# Altium footprint library rlc-chip.PcbLib: 57 footprints (part 1 of 4)
Each footprint in its own frame and in the unit in brackets; x right, y up, seen from the top. Pads: shape width x height; smd on the part's side, far side on the other; paste and mask are expansions set on the pad; w line width, h text height; cw(c..) or ccw(c..) is an arc to the next point about the centre after c.
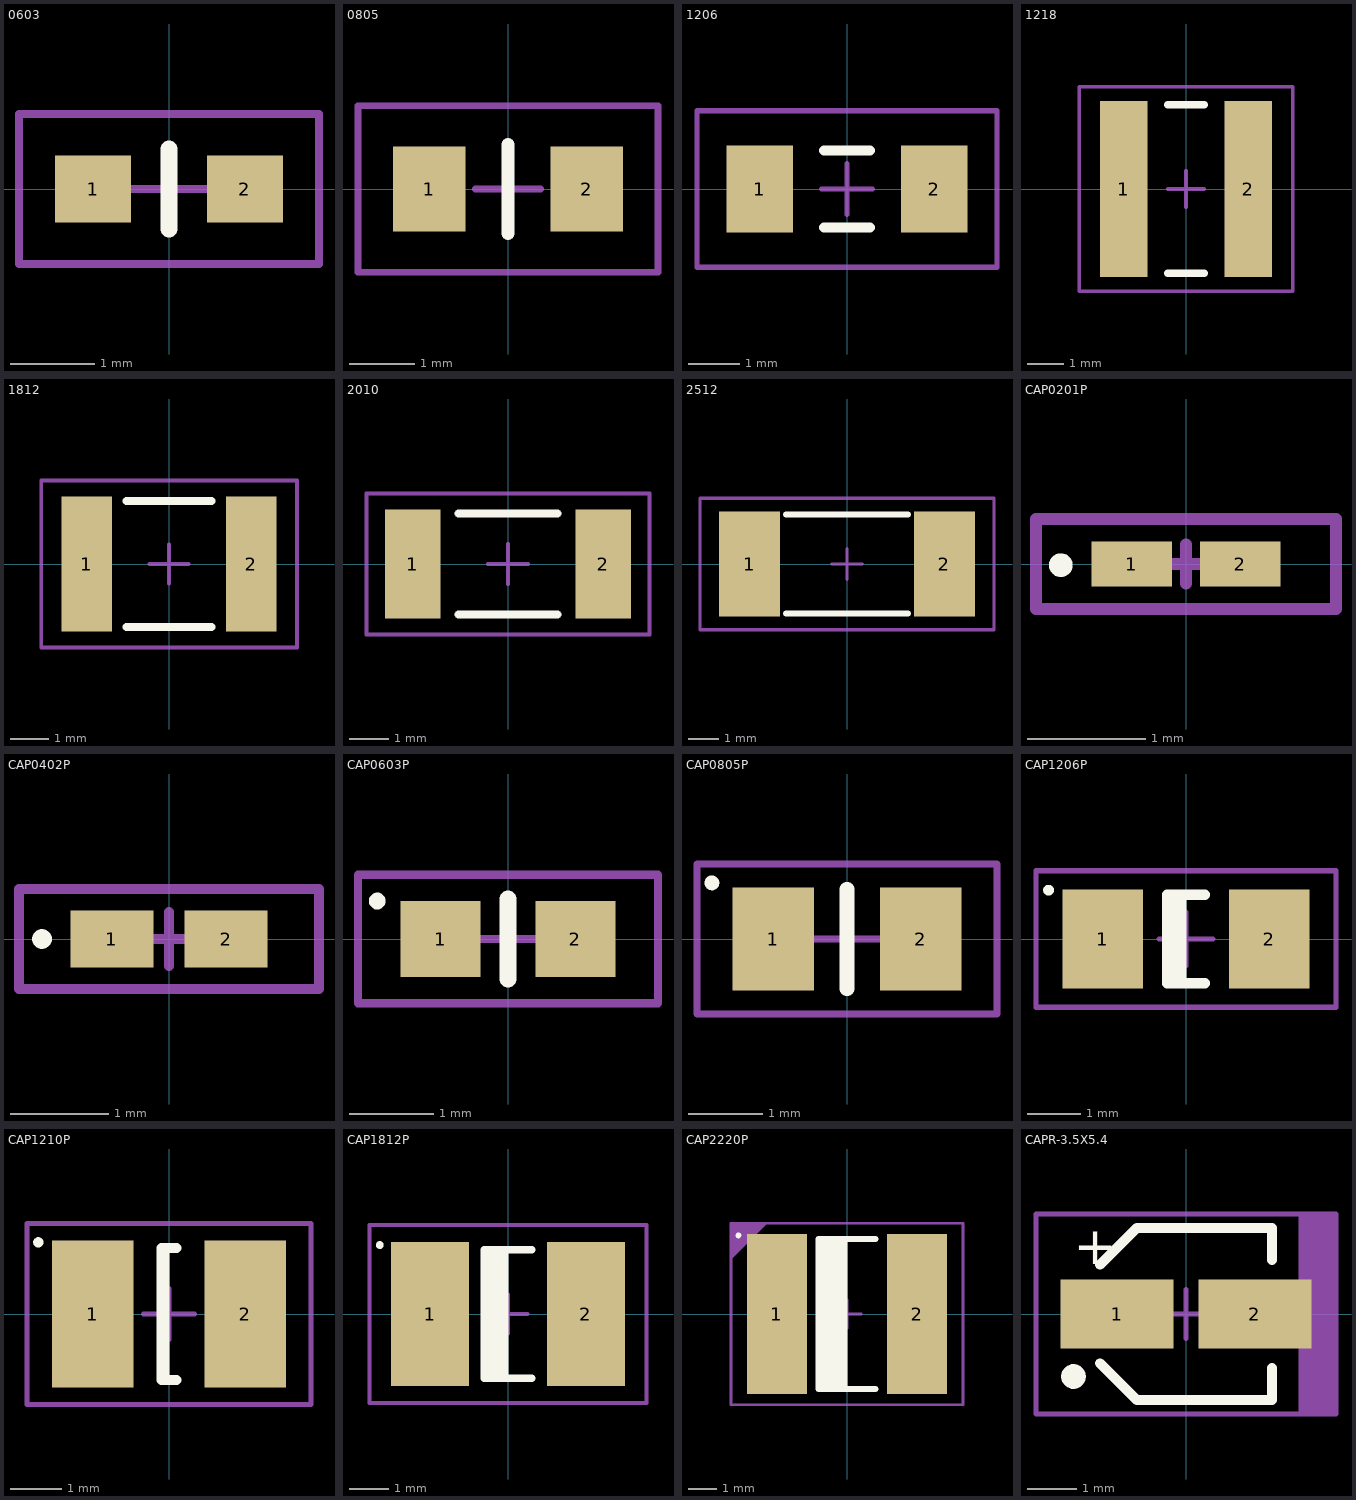
[diagram p0: the footprints below, top view; thin cyan lines are the x and y axes]

## 0603 [mm] "Chip Capacitor, 2-Leads, Body 1,60x0,80mm, IPC Medium Density"
height 0.9
pads (2):
  rect 0.9x0.8 smd: 1(-0.9,0) 2(0.9,0)
Top Overlay:
  lines w0.2: 0,-0.475 0,0.475
Mechanical 13:
  lines w0.1: -1.778,-0.889 -1.778,0.889 1.778,0.889 1.778,-0.889 -1.778,-0.889
  text ".Designator" at -1.34,-0.39 h0.8
Mechanical 15:
  lines w0.05: -1.778,-0.889 -1.778,0.889 1.778,0.889 1.778,-0.889 -1.778,-0.889
  lines w0.1: -0.45,0 0.45,0 ; 0,-0.45 0,0.45
3D body: height 0.9, standoff 0, extent -0.55,-0.45 0.55,0.45
3D body: height 0.9, standoff 0, extent -0.85,-0.45 -0.55,0.45
3D body: height 0.9, standoff 0, extent 0.55,-0.45 0.85,0.45

## 0805 [mm] "Chip Resistor, 2-Leads, Body 2,00x1,25mm, IPC Medium Density"
height 0.7
pads (2):
  rect 1.1x1.3 smd: 1(-1.2,0) 2(1.2,0)
Top Overlay:
  lines w0.2: 0,-0.675 0,0.675
Mechanical 13:
  lines w0.1: -2.286,-1.27 -2.286,1.27 2.286,1.27 2.286,-1.27 -2.286,-1.27
  text ".Designator" at -1.68,-0.49 h1
Mechanical 15:
  lines w0.05: -2.286,-1.27 -2.286,1.27 2.286,1.27 2.286,-1.27 -2.286,-1.27
  lines w0.1: -0.5,0 0.5,0 ; 0,-0.5 0,0.5
3D body: height 0.7, standoff 0, extent -0.7,-0.675 0.7,0.675
3D body: height 0.7, standoff 0, extent -1.1,-0.675 -0.7,0.675
3D body: height 0.7, standoff 0, extent 0.7,-0.675 1.1,0.675

## 1206 [mm] "Chip Resistor, 2-Leads, Body 3,13x1,55mm, IPC Medium Density"
height 0.7
pads (2):
  rect 1.3x1.7 smd: 1(-1.7,0) 2(1.7,0)
Top Overlay:
  lines w0.2: -0.45,-0.75 0.45,-0.75 ; -0.45,0.75 0.45,0.75
Mechanical 13:
  lines w0.1: -2.921,-1.524 -2.921,1.524 2.921,1.524 2.921,-1.524 -2.921,-1.524
  text ".Designator" at -2.16,-0.63 h1.3
Mechanical 15:
  lines w0.05: -2.921,-1.524 -2.921,1.524 2.921,1.524 2.921,-1.524 -2.921,-1.524
  lines w0.1: -0.5,0 0.5,0 ; 0,-0.5 0,0.5
3D body: height 0.7, standoff 0, extent -1.125,-0.825 1.125,0.825
3D body: height 0.7, standoff 0, extent -1.625,-0.825 -1.125,0.825
3D body: height 0.7, standoff 0, extent 1.125,-0.825 1.625,0.825

## 1218 [mm] "Chip Resistor, 2-Leads, Body 3,13x1,55mm, IPC Medium Density"
height 0.7
pads (2):
  rect 1.3x4.8 smd: 1(-1.7,0) 2(1.7,0)
Top Overlay:
  lines w0.2: -0.5,-2.3 0.5,-2.3 ; -0.5,2.3 0.5,2.3
Mechanical 13:
  lines w0.1: -2.921,-2.794 2.921,-2.794 2.921,2.794 -2.921,2.794 -2.921,-2.794
  text ".Designator" at -2.17,-0.65 h1.3
Mechanical 15:
  lines w0.05: -2.921,-2.794 2.921,-2.794 2.921,2.794 -2.921,2.794 -2.921,-2.794
  lines w0.1: -0.5,0 0.5,0 ; 0,-0.5 0,0.5
3D body: height 0.7, standoff 0, extent 1.125,-2.3 1.625,2.3
3D body: height 0.7, standoff 0, extent -1.625,-2.3 -1.125,2.3
3D body: height 0.7, standoff 0, extent -1.125,-2.3 1.125,2.3

## 1812 [mm] "Chip Resistor, 2-Leads, Body 4,50x3,20mm, IPC Medium Density"
height 0.7
pads (2):
  rect 1.3x3.5 smd: 1(-2.125,0) 2(2.125,0)
Top Overlay:
  lines w0.2: -1.1,-1.625 1.1,-1.625 ; -1.1,1.625 1.1,1.625
Mechanical 13:
  lines w0.1: -3.3,-2.159 3.302,-2.159 3.302,2.159 -3.3,2.159 -3.3,-2.159
  text ".Designator" at -2.18,-0.57 h1.3
Mechanical 15:
  lines w0.05: -3.3,-2.159 3.3,-2.159 3.3,2.159 -3.3,2.159 -3.3,-2.159
  lines w0.1: -0.5,0 0.5,0 ; 0,-0.5 0,0.5
3D body: height 0.7, standoff 0, extent 1.85,-1.7 2.35,1.7
3D body: height 0.7, standoff 0, extent -2.35,-1.7 -1.85,1.7
3D body: height 0.7, standoff 0, extent -1.85,-1.7 1.85,1.7

## 2010 [mm] "Chip Resistor, 2-Leads, Body 5,00x2,50mm, IPC Medium Density"
height 0.7
pads (2):
  rect 1.4x2.75 smd: 1(-2.4,0) 2(2.4,0)
Top Overlay:
  lines w0.2: -1.25,-1.275 1.25,-1.275 ; -1.25,1.275 1.25,1.275
Mechanical 13:
  lines w0.1: -3.556,-1.778 3.556,-1.778 3.556,1.778 -3.556,1.778 -3.556,-1.778
  text ".Designator" at -2.33,-0.7 h1.4
Mechanical 15:
  lines w0.05: -3.556,-1.778 3.556,-1.778 3.556,1.778 -3.556,1.778 -3.556,-1.778
  lines w0.1: -0.5,0 0.5,0 ; 0,-0.5 0,0.5
3D body: height 0.7, standoff 0, extent 2,-1.35 2.6,1.35
3D body: height 0.7, standoff 0, extent -2.6,-1.35 -2,1.35
3D body: height 0.7, standoff 0, extent -2,-1.35 2,1.35

## 2512 [mm] "Chip Resistor, 2-Leads, Body 6,40x3,20mm, IPC Medium Density"
height 0.8
pads (2):
  rect 2x3.45 smd: 1(-3.2,0) 2(3.2,0)
Top Overlay:
  lines w0.2: -2,-1.625 2,-1.625 ; -2,1.625 2,1.625
Mechanical 13:
  lines w0.1: -4.826,-2.159 4.826,-2.159 4.826,2.159 -4.826,2.159 -4.826,-2.159
  text ".Designator" at -3.03,-0.87 h1.8
Mechanical 15:
  lines w0.05: -4.826,-2.159 4.826,-2.159 4.826,2.159 -4.826,2.159 -4.826,-2.159
  lines w0.1: -0.5,0 0.5,0 ; 0,-0.5 0,0.5
3D body: height 0.8, standoff 0, extent 2.7,-1.7 3.3,1.7
3D body: height 0.8, standoff 0, extent -3.3,-1.7 -2.7,1.7
3D body: height 0.8, standoff 0, extent -2.7,-1.7 2.7,1.7

## CAP0201P [mm] "Chip Capacitor, 2-Leads, Body 0,60x0,30mm, IPC Medium Density"
height 0.33
pads (2):
  rect 0.68x0.38 smd: 1(-0.46,0) 2(0.46,0)
Top Overlay:
  circle w0.1: c-1.06,-0.01 r0.05
Mechanical 13:
  lines w0.1: -1.27,-0.381 -1.27,0.381 1.27,0.381 1.27,-0.381 -1.27,-0.381
  text ".Designator" at -0.66,-0.18 h0.4
Mechanical 15:
  lines w0.05: -1.27,-0.381 -1.27,0.381 1.27,0.381 1.27,-0.381 -1.27,-0.381
  lines w0.1: -0.165,0 0.165,0 ; 0,-0.165 0,0.165
3D body: height 0.33, standoff 0, extent -0.165,-0.165 0.165,0.165
3D body: height 0.33, standoff 0, extent -0.315,-0.165 -0.165,0.165
3D body: height 0.33, standoff 0, extent 0.165,-0.165 0.315,0.165

## CAP0402P [mm] "Chip Capacitor, 2-Leads, Body 1,00x0,50mm, IPC Medium Density"
height 0.55
pads (2):
  rect 0.84x0.58 smd: 1(-0.58,0) 2(0.58,0)
Top Overlay:
  circle w0.1: c-1.29,0 r0.05
Mechanical 13:
  lines w0.1: -1.524,-0.508 1.524,-0.508 1.524,0.508 -1.524,0.508 -1.524,-0.508
  text ".Designator" at -1.03,-0.27 h0.6
Mechanical 15:
  lines w0.05: -1.524,-0.508 1.524,-0.508 1.524,0.508 -1.524,0.508 -1.524,-0.508
  lines w0.1: -0.275,0 0.275,0 ; 0,-0.275 0,0.275
3D body: height 0.55, standoff 0, extent 0.245,-0.275 0.525,0.275
3D body: height 0.55, standoff 0, extent -0.525,-0.275 -0.245,0.275
3D body: height 0.55, standoff 0, extent -0.245,-0.275 0.245,0.275

## CAP0603P [mm] "Chip Capacitor, 2-Leads, Body 1,60x0,80mm, IPC Medium Density"
height 0.9
pads (2):
  rect 0.95x0.9 smd: 1(-0.8,0) 2(0.8,0)
Top Overlay:
  circle w0.1: c-1.55,0.45 r0.05
  lines w0.2: 0,-0.475 0,0.475
Mechanical 13:
  lines w0.1: -1.778,-0.762 1.778,-0.762 1.778,0.762 -1.778,0.762 -1.778,-0.762
  text ".Designator" at -1.33,-0.35 h0.8
Mechanical 15:
  lines w0.05: -1.778,-0.762 -1.778,0.762 1.778,0.762 1.778,-0.762 -1.778,-0.762
  lines w0.1: -0.45,0 0.45,0 ; 0,-0.45 0,0.45
3D body: height 0.9, standoff 0, extent -0.55,-0.45 0.55,0.45
3D body: height 0.9, standoff 0, extent -0.85,-0.45 -0.55,0.45
3D body: height 0.9, standoff 0, extent 0.55,-0.45 0.85,0.45

## CAP0805P [mm] "Chip Capacitor, 2-Leads, Body 2,00x1,25mm, IPC Medium Density"
height 1.35
pads (2):
  rect 1.1x1.4 smd: 1(-1,0) 2(1,0)
Top Overlay:
  circle w0.1: c-1.83,0.76 r0.05
  lines w0.2: 0,-0.675 0,0.675
Mechanical 13:
  lines w0.1: -2.032,-1.016 2.032,-1.016 2.032,1.016 -2.032,1.016 -2.032,-1.016
  text ".Designator" at -1.67,-0.42 h1
Mechanical 15:
  lines w0.05: -2.032,-1.016 2.032,-1.016 2.032,1.016 -2.032,1.016 -2.032,-1.016
  lines w0.1: -0.5,0 0.5,0 ; 0,-0.5 0,0.5
3D body: height 1.35, standoff 0, extent 0.6,-0.675 1.05,0.675
3D body: height 1.35, standoff 0, extent -1.05,-0.675 -0.6,0.675
3D body: height 1.35, standoff 0, extent -0.6,-0.675 0.6,0.675

## CAP1206P [mm] "Chip Capacitor, 2-Leads, Body 3,20x1,60mm, IPC Medium Density"
height 1.8
pads (2):
  rect 1.5x1.85 smd: 1(-1.55,0) 2(1.55,0)
Top Overlay:
  circle w0.1: c-2.56,0.91 r0.05
  region: -0.35,0.825 -0.35,-0.825 0,-0.825 0,0.825
  lines w0.2: 0.35,-0.825 -0.35,-0.825 -0.35,0.825 0.35,0.825
Mechanical 13:
  lines w0.1: -2.794,-1.27 2.794,-1.27 2.794,1.27 -2.794,1.27 -2.794,-1.27
  text ".Designator" at -2.17,-0.64 h1.3
Mechanical 15:
  lines w0.05: -2.794,-1.27 2.794,-1.27 2.794,1.27 -2.794,1.27 -2.794,-1.27
  lines w0.1: -0.5,0 0.5,0 ; 0,-0.5 0,0.5
3D body: height 1.8, standoff 0, extent 1.2,-0.9 1.7,0.9
3D body: height 1.8, standoff 0, extent -1.7,-0.9 -1.2,0.9
3D body: height 1.8, standoff 0, extent -1.2,-0.9 1.2,0.9

## CAP1210P [mm] "Chip Capacitor, 2-Leads, Body 3,20x2,50mm, IPC Medium Density"
height 2.8
pads (2):
  rect 1.6x2.9 smd: 1(-1.5,0) 2(1.5,0)
Top Overlay:
  circle w0.1: c-2.57,1.41 r0.05
  region: -0.15,-1.3 -0.15,1.3 0,1.3 0,-1.3
  lines w0.2: 0.15,-1.3 -0.15,-1.3 -0.15,1.3 0.15,1.3
Mechanical 13:
  lines w0.1: -2.794,-1.778 -2.794,1.778 2.794,1.778 2.794,-1.778 -2.794,-1.778
  text ".Designator" at -2.19,-0.65 h1.3
Mechanical 15:
  lines w0.05: -2.794,-1.778 -2.794,1.778 2.794,1.778 2.794,-1.778 -2.794,-1.778
  lines w0.1: -0.5,0 0.5,0 ; 0,-0.5 0,0.5
3D body: height 2.8, standoff 0, extent -1.2,-1.4 1.2,1.4
3D body: height 2.8, standoff 0, extent -1.8,-1.4 -1.2,1.4
3D body: height 2.8, standoff 0, extent 1.2,-1.4 1.8,1.4

## CAP1812P [mm] "Chip Capacitor, 2-Leads, Body 4,50x3,20mm, IPC Medium Density"
height 3.5
pads (2):
  rect 2x3.7 smd: 1(-2,0) 2(2,0)
Top Overlay:
  circle w0.1: c-3.29,1.77 r0.05
  region: -0.6,-1.65 -0.6,1.65 0,1.65 0,-1.65
  lines w0.2: 0.6,-1.65 -0.6,-1.65 -0.6,1.65 0.6,1.65
Mechanical 13:
  lines w0.1: -3.556,-2.286 -3.556,2.286 3.556,2.286 3.556,-2.286 -3.556,-2.286
  text ".Designator" at -2.66,-0.82 h1.6
Mechanical 15:
  lines w0.05: -3.556,-2.286 -3.556,2.286 3.556,2.286 3.556,-2.286 -3.556,-2.286
  lines w0.1: -0.5,0 0.5,0 ; 0,-0.5 0,0.5
3D body: height 3.5, standoff 0, extent -1.65,-1.75 1.65,1.75
3D body: height 3.5, standoff 0, extent -2.45,-1.75 -1.65,1.75
3D body: height 3.5, standoff 0, extent 1.65,-1.75 2.45,1.75

## CAP2220P [mm] "Chip Capacitor, 2-Leads, Body 5,70x5,00mm, IPC Medium Density"
height 3.5
pads (2):
  rect 2.1x5.6 smd: 1(-2.45,0) 2(2.45,0)
Top Overlay:
  circle w0.1: c-3.8,2.75 r0.05
  region: -1,-2.625 -1,2.625 0,2.7 0,-2.7
  lines w0.2: 1,-2.625 -1,-2.625 -1,2.625 1,2.625
Mechanical 13:
  region: -4.064,3.175 -4.064,1.905 -2.794,3.175
  lines w0.1: -4.064,-3.175 4.064,-3.175 4.064,3.175 -4.064,3.175 -4.064,-3.175
  text ".Designator" at -3,-0.82 h1.8
Mechanical 15:
  lines w0.05: -4.064,-3.175 4.064,-3.175 4.064,3.175 -4.064,3.175 -4.064,-3.175
  lines w0.1: -0.5,0 0.5,0 ; 0,-0.5 0,0.5
3D body: height 3.5, standoff 0, extent 2.05,-2.7 3.05,2.7
3D body: height 3.5, standoff 0, extent -3.05,-2.7 -2.05,2.7
3D body: height 3.5, standoff 0, extent -2.05,-2.7 2.05,2.7

## CAPR-3.5X5.4 [mm] "Molded Capacitor, 2-Leads, Body 3,30x3,30mm, IPC Medium Density"
height 1
pads (2):
  rect 2.3x1.4 smd: 1(-1.4,0) 2(1.4,0)
Top Overlay:
  circle w0.25: c-2.286,-1.27 r0.125
  lines w0.2: -1.75,-1 -1,-1.75 1.75,-1.75 1.75,-1.1 ; -1.75,1 -1,1.75 1.75,1.75 1.75,1.1
  text "+" at -2.286,1.016 h0.76
Mechanical 13:
  region: 3.048,2.032 2.286,2.032 2.286,-2.032 3.048,-2.032
  lines w0.1: -3.048,-2.032 3.048,-2.032 3.048,2.032 -3.048,2.032 -3.048,-2.032
  text ".Designator" at -2.46,-0.53 h1.2
Mechanical 15:
  lines w0.05: -3.048,-2.032 3.048,-2.032 3.048,2.032 -3.048,2.032 -3.048,-2.032
  lines w0.1: -0.5,0 0.5,0 ; 0,-0.5 0,0.5
3D body: height 1, standoff 0, extent -1.8,-1.75 1.75,1.75
3D body: height 5.5, standoff 1, extent -1.488,-1.497 1.5,1.497